# EAGLE library part HR911105A (library Misaka-Connector)
Single RJ45(8P8C) connector with magnetics and LED
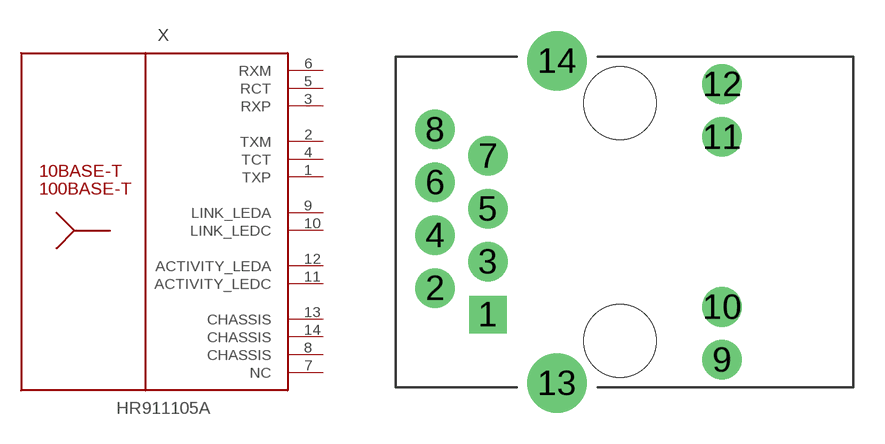
[diagram p0: symbol with the pads of HR911105A; footprint HR911105A]

Designator prefix X

## HR911105A  [HR911105A]
1  TXP
2  TXM
3  RXP
4  TCT
5  RCT
6  RXM
7  NC  nc
8  CHASSIS  pwr
9  LINK_LEDA
10  LINK_LEDC
11  ACTIVITY_LEDC
12  ACTIVITY_LEDA
13  CHASSIS  pwr
14  CHASSIS  pwr

## Footprint HR911105A (pad centres in mm)
drill 1.2 pad 1.7 square: 1 -6.28,-4.39
drill 1.2 pad 1.9: 2 -8.82,-3.12; 3 -6.28,-1.85; 4 -8.82,-0.58; 5 -6.28,0.69; 6 -8.82,1.96; 7 -6.28,3.23; 8 -8.82,4.5; 9 4.97,-6.57; 10 4.97,-4.03; 11 4.97,4.14; 12 4.97,6.68
drill 1.9 pad 2.6: 13 -2.96,-7.69; 14 -2.96,7.8
hole 3.5 at 0.07,5.77
hole 3.5 at 0.07,-5.66